# EAGLE library part 74HCT241PW (library NXP_By_element14_Batch_1)
Octal buffer/line driver
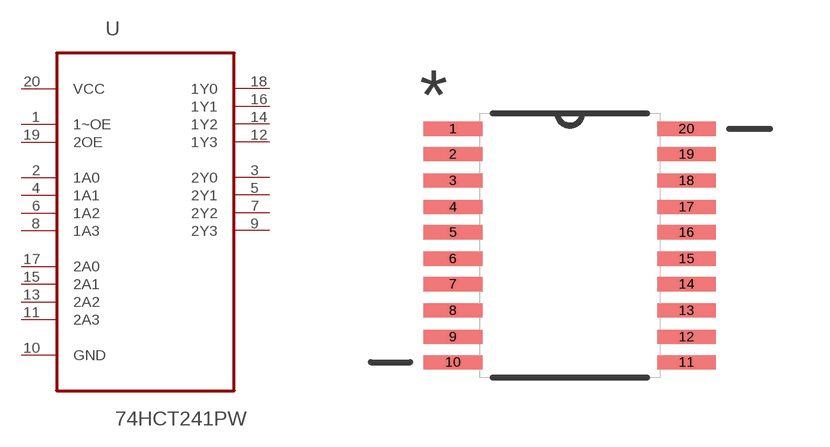
[diagram p188: symbol with the pads of SOP65P640X110-20N; footprint SOP65P640X110-20N]

Designator prefix U

## 74HCT241PW (MPN: 74HCT241PW; OC_FARNELL: 1631671; OC_NEWARK: 03P2753; PACKAGE: TSSOP-20; SUPPLIER: NXP)  [SOP65P640X110-20N]
1  1~OE  in
2  1A0  in
3  2Y0  out
4  1A1  in
5  2Y1  out
6  1A2  in
7  2Y2  out
8  1A3  in
9  2Y3  out
10  GND  pas
11  2A3  in
12  1Y3  out
13  2A2  in
14  1Y2  out
15  2A1  in
16  1Y1  out
17  2A0  in
18  1Y0  out
19  2OE  in
20  VCC  pwr

## Footprint SOP65P640X110-20N (pad centres in mm)
smd 1.473 x 0.356: 1 -2.921,2.921; 2 -2.921,2.286; 3 -2.921,1.626; 4 -2.921,0.965; 5 -2.921,0.33; 6 -2.921,-0.33; 7 -2.921,-0.965; 8 -2.921,-1.626; 9 -2.921,-2.286; 10 -2.921,-2.921; 11 2.921,-2.921; 12 2.921,-2.286; 13 2.921,-1.626; 14 2.921,-0.965; 15 2.921,-0.33; 16 2.921,0.33; 17 2.921,0.965; 18 2.921,1.626; 19 2.921,2.286; 20 2.921,2.921